# Altium schematic symbol library HW.SchLib: 328 symbols (part 1 of 10)
Pins are listed as number, name and electrical type; pins without a type are passive.

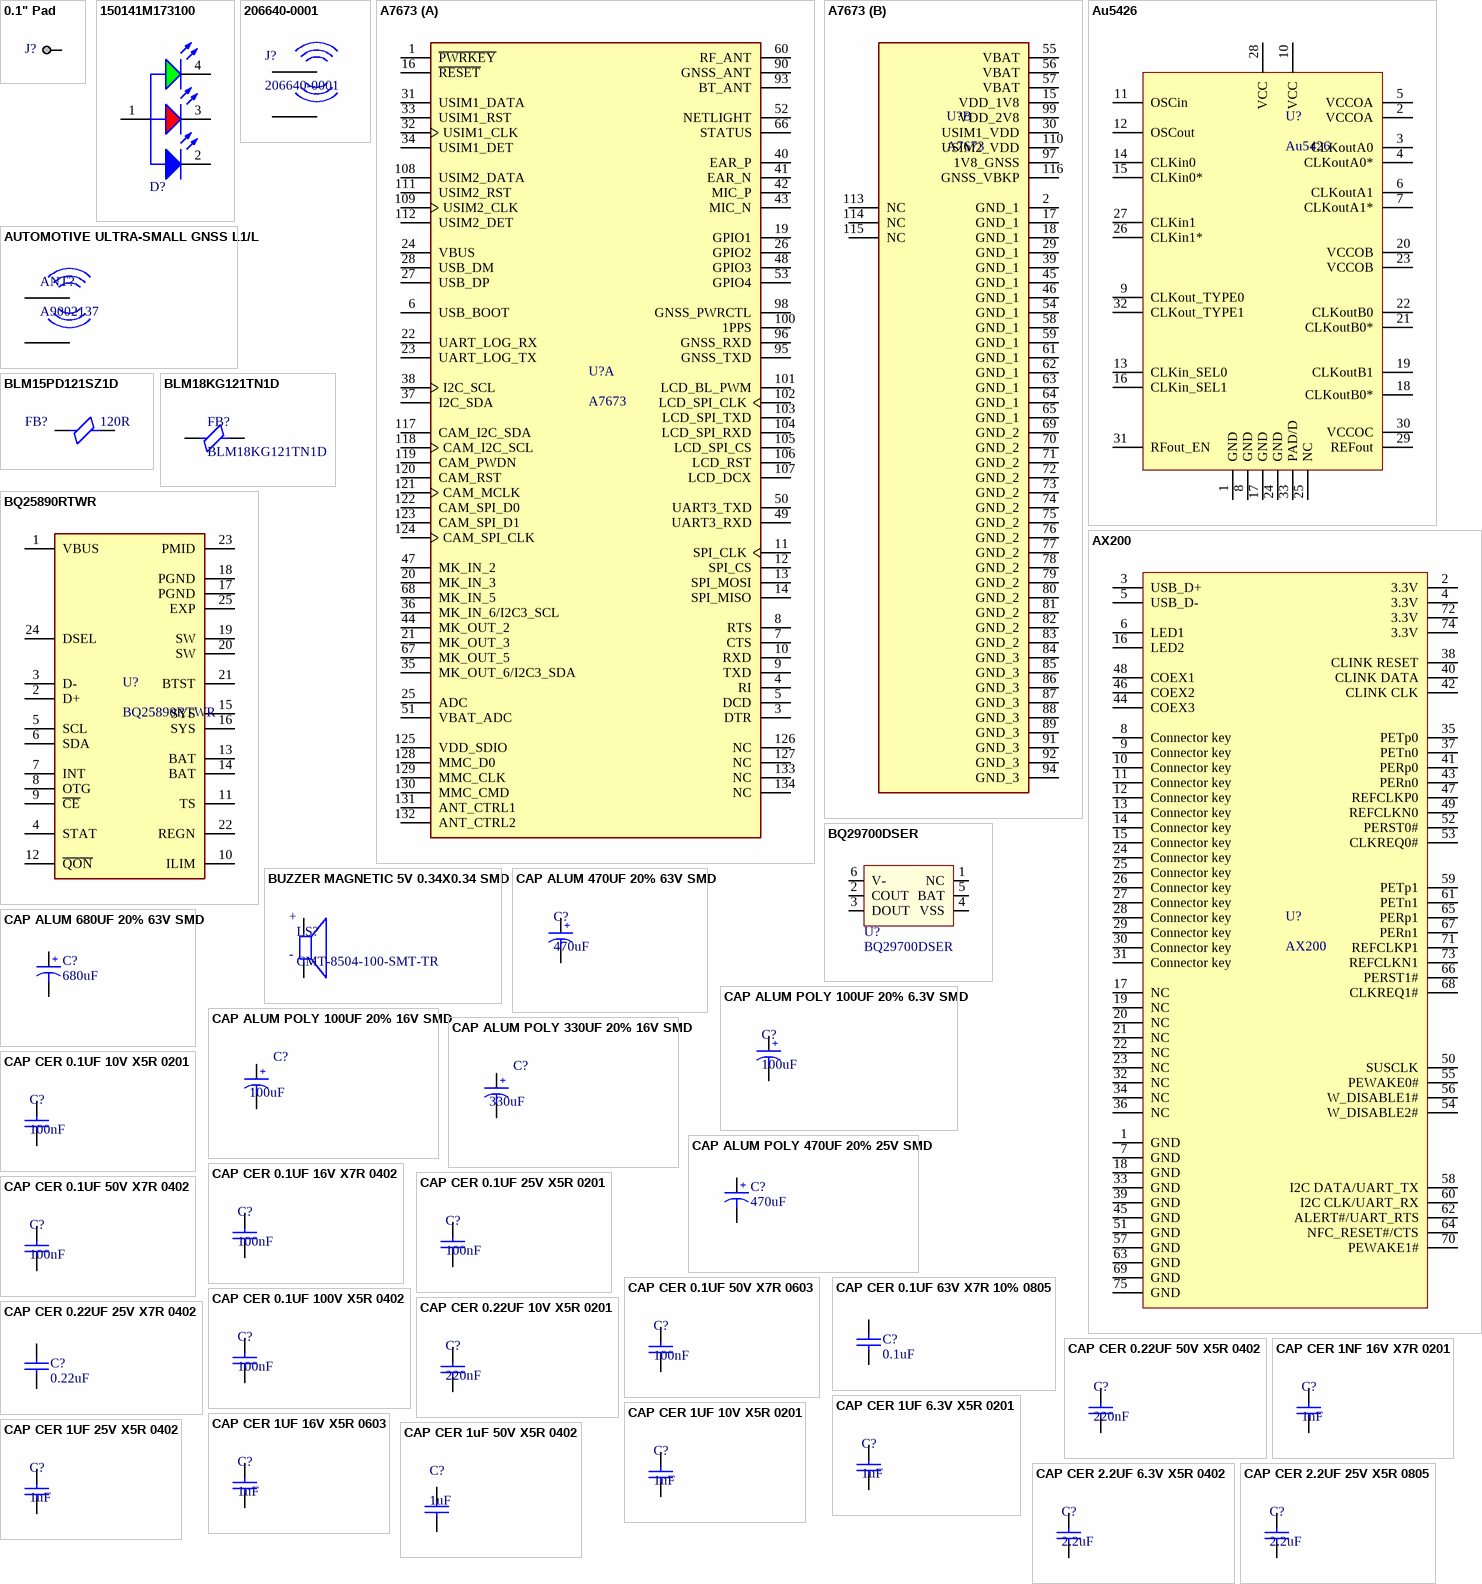
[diagram p0: symbols 0.1" Pad to CAP CER 2.2UF 25V X5R 0805]

## 0.1" Pad
designator J?  (value not drawn)  (no BOM)
footprint 0.1" Pad
pins: 1

## 150141M173100
designator D?, comment Red & Green & Blue, 120°  (value not drawn)
WL-SFTW Full-color TOP LED Waterclear, size 3528, Red & Green & Blue, 120°; Manufacturer Part Number: 150141M173100; Manufacturer: Wurth Elektronik; Case/Size Code: 3528; Chip Technology: AlInGaP + InGaN; Dominant Wavelength (Blue): 470nm; Dominant Wavelength (Green): 520nm; Dominant Wavelength (Red): 625nm; Forward Voltage (Blue): 3.2V; Forward Voltage (Red): 2V; Luminous Intensity (Blue): 230mcd; Luminous Intensity (Green): 950mcd; Luminous Intensity (Red): 270mcd; Peak Wavelength (Blue): 465nm; Peak Wavelength (Green): 515nm; Peak Wavelength (Red): 635nm; Category: Signal LEDs; Match Code: WL-SFTW; ComponentLink1Description: Website Link; ComponentLink1URL: https://www.we-online.com/redexpert/article/150141M173100?ad; ComponentLink2Description: Datasheet Link; ComponentLink2URL: https://www.we-online.com/redexpert/spec/150141M173100?ad; Mount: Surface Mount; Operating Temperature Max: 85°C; Operating Temperature Min: -40°C; Packaging: Tape and Reel; Length: 3.5mm; Width: 2.8mm; Height: 1.9mm; Emitting Color: Red & Green & Blue; Forward Voltage (Green): 3.2V; Viewing Angle: 120°
footprint WL-SFTW_3528_150141M173100 (SMT Full-color TOP LED Waterclear, body 3.5x2.8mm)
pins: 1 A, 2 K, 3 K, 4 K

## 206640-0001
designator J?
Patch Antenna Right Hand Circular 1564MHz/1578MHz/1607MHz 4.5dBi 50Ohm Adhesive Box; Manufacturer: Molex; Supplier 1: Avnet; Manufacturer Part Number: 206640-0001; RoHS: No; Category: RF Antennas; Stock 1: 2803; Pricing 1: 1=11.06, 5=10.23, 10=9.4, 25=9.24, 50=9 (USD); ComponentLink1URL: http://datasheet.octopart.com/2066400001-Molex-datasheet-147956594.pdf?src-supplier=Arrow+Electronics; ComponentLink1Description: http://datasheet.octopart.com/2066400001-Molex-datasheet-147956594.pdf?src-supplier=Arrow+Electronics; ComponentLink2URL: http://datasheet.octopart.com/2066400001-Molex-datasheet-147956594.pdf?src-supplier=Newark; ComponentLink2Description: http://datasheet.octopart.com/2066400001-Molex-datasheet-147956594.pdf?src-supplier=Newark; ComponentLink3URL: http://datasheet.octopart.com/2066400001-Molex-datasheet-147956594.pdf?src-supplier=Distrelec; ComponentLink3Description: http://datasheet.octopart.com/2066400001-Molex-datasheet-147956594.pdf?src-supplier=Distrelec; ComponentLink4URL: http://datasheet.octopart.com/2066400001-Molex-datasheet-147956594.pdf?src-supplier=Rs; ComponentLink4Description: http://datasheet.octopart.com/2066400001-Molex-datasheet-147956594.pdf?src-supplier=Rs; ComponentLink5URL: http://datasheet.octopart.com/2066400001-Molex-datasheet-147956594.pdf?src-supplier=Onlinecomponents.com; ComponentLink5Description: http://datasheet.octopart.com/2066400001-Molex-datasheet-147956594.pdf?src-supplier=Onlinecomponents.com; ComponentLink6URL: https://datasheet.octopart.com/206640-0001-Molex-datasheet-151511605.pdf?src-supplier=TME; ComponentLink6Description: https://datasheet.octopart.com/206640-0001-Molex-datasheet-151511605.pdf?src-supplier=TME; ComponentLink7URL: http://datasheet.octopart.com/2066400001-Molex-datasheet-147956594.pdf?src-supplier=TME; ComponentLink7Description: http://datasheet.octopart.com/2066400001-Molex-datasheet-147956594.pdf?src-supplier=TME; ComponentLink8URL: http://datasheet.octopart.com/2066400001-Molex-datasheet-147956594.pdf?src-supplier=TTI; ComponentLink8Description: http://datasheet.octopart.com/2066400001-Molex-datasheet-147956594.pdf?src-supplier=TTI; Supplier Part Number 1: 62AC0252
footprint IPEX
pins: 1 AT, 2 0

## A7673
designator U?
Cellular EDGE, GPRS, GSM, LTE Transceiver Module 900MHz, 1.8GHz Antenna Not Included Surface Mount; MF: SIMCom Wireless Solutions Limited; MP: A7672SA (LASE); SnapEDA_Link: https://www.snapeda.com/parts/A7672SA%20(LASE)/SIMCom/view-part/?ref=snap; Package: SMD-80 SIMCom; Value: *; Check_prices: https://www.snapeda.com/parts/A7672SA%20(LASE)/SIMCom/view-part/?ref=eda
footprint A7673
part A pins: 1 ~{PWRKEY}, 3 DTR, 4 RI, 5 DCD, 6 USB_BOOT, 7 CTS, 8 RTS, 9 TXD, 10 RXD, 11 SPI_CLK, 12 SPI_CS, 13 SPI_MOSI, 14 SPI_MISO, 16 ~{RESET}, 19 GPIO1, 20 MK_IN_3, 21 MK_OUT_3, 22 UART_LOG_RX, 23 UART_LOG_TX, 24 VBUS, 25 ADC, 26 GPIO2, 27 USB_DP, 28 USB_DM, 31 USIM1_DATA, 32 USIM1_CLK, 33 USIM1_RST, 34 USIM1_DET, 35 MK_OUT_6/I2C3_SDA, 36 MK_IN_6/I2C3_SCL, 37 I2C_SDA, 38 I2C_SCL, 40 EAR_P, 41 EAR_N, 42 MIC_P, 43 MIC_N, 44 MK_OUT_2, 47 MK_IN_2, 48 GPIO3, 49 UART3_RXD, 50 UART3_TXD, 51 VBAT_ADC, 52 NETLIGHT, 53 GPIO4, 60 RF_ANT, 66 STATUS, 67 MK_OUT_5, 68 MK_IN_5, 90 GNSS_ANT, 93 BT_ANT, 95 GNSS_TXD, 96 GNSS_RXD, 98 GNSS_PWRCTL, 100 1PPS, 101 LCD_BL_PWM, 102 LCD_SPI_CLK, 103 LCD_SPI_TXD, 104 LCD_SPI_RXD, 105 LCD_SPI_CS, 106 LCD_RST, 107 LCD_DCX, 108 USIM2_DATA, 109 USIM2_CLK, 111 USIM2_RST, 112 USIM2_DET, 117 CAM_I2C_SDA, 118 CAM_I2C_SCL, 119 CAM_PWDN, 120 CAM_RST, 121 CAM_MCLK, 122 CAM_SPI_D0, 123 CAM_SPI_D1, 124 CAM_SPI_CLK, 125 VDD_SDIO, 126 NC, 127 NC, 128 MMC_D0, 129 MMC_CLK, 130 MMC_CMD, 131 ANT_CTRL1, 132 ANT_CTRL2, 133 NC, 134 NC
part B pins: 2 GND_1 (power), 15 VDD_1V8 (power), 17 GND_1 (power), 18 GND_1 (power), 29 GND_1 (power), 30 USIM1_VDD (power), 39 GND_1 (power), 45 GND_1 (power), 46 GND_1 (power), 54 GND_1 (power), 55 VBAT (power), 56 VBAT (power), 57 VBAT (power), 58 GND_1 (power), 59 GND_1 (power), 61 GND_1 (power), 62 GND_1 (power), 63 GND_1 (power), 64 GND_1 (power), 65 GND_1 (power), 69 GND_2 (power), 70 GND_2 (power), 71 GND_2 (power), 72 GND_2 (power), 73 GND_2 (power), 74 GND_2 (power), 75 GND_2 (power), 76 GND_2 (power), 77 GND_2 (power), 78 GND_2 (power), 79 GND_2 (power), 80 GND_2 (power), 81 GND_2 (power), 82 GND_2 (power), 83 GND_2 (power), 84 GND_3 (power), 85 GND_3 (power), 86 GND_3 (power), 87 GND_3 (power), 88 GND_3 (power), 89 GND_3 (power), 91 GND_3 (power), 92 GND_3 (power), 94 GND_3 (power), 97 1V8_GNSS (power), 99 VDD_2V8 (power), 110 USIM2_VDD (power), 113 NC, 114 NC, 115 NC, 116 GNSS_VBKP (power)

## Au5426
designator U?
footprint QFN50P500X500X80-33N
pins: 1 GND, 2 VCCOA, 3 CLKoutA0, 4 CLKoutA0*, 5 VCCOA, 6 CLKoutA1, 7 CLKoutA1*, 8 GND, 9 CLKout_TYPE0, 10 VCC, 11 OSCin, 12 OSCout, 13 CLKin_SEL0, 14 CLKin0, 15 CLKin0*, 16 CLKin_SEL1, 17 GND, 18 CLKoutB0*, 19 CLKoutB1, 20 VCCOB, 21 CLKoutB0*, 22 CLKoutB0, 23 VCCOB, 24 GND, 25 NC, 26 CLKin1*, 27 CLKin1, 28 VCC, 29 REFout, 30 VCCOC, 31 RFout_EN, 32 CLKout_TYPE1, 33 PAD/D

## AUTOMOTIVE ULTRA-SMALL GNSS L1/L
designator ANT?, comment A9002137
Automotive Ultra-small Gnss L1/L; Manufacturer: KYOCERA AVX; Supplier 1: Digikey; Manufacturer Part Number: A9002137; Stock 1: 4993; Pricing 1: 1=1.53, 10=1.367, 25=1.2976, 100=1.066, 250=0.99652, 500=0.88064, 1000=0.69525, 2500=0.6489 (USD); Supplier Part Number 1: 478-A9002137CT-ND
footprint A9002137
pins: 1 AT, 2 0

## AX200
designator U?
Intel® Wi-Fi 6 AX200  (Cyclone Peak 2) /
footprint AMPHENOL_MDT420E03001
pins: 1 GND, 2 3.3V, 3 USB_D+, 4 3.3V, 5 USB_D-, 6 LED1, 7 GND, 8 Connector key, 9 Connector key, 10 Connector key, 11 Connector key, 12 Connector key, 13 Connector key, 14 Connector key, 15 Connector key, 16 LED2, 17 NC, 18 GND, 19 NC, 20 NC, 21 NC, 22 NC, 23 NC, 24 Connector key, 25 Connector key, 26 Connector key, 27 Connector key, 28 Connector key, 29 Connector key, 30 Connector key, 31 Connector key, 32 NC, 33 GND, 34 NC, 35 PETp0, 36 NC, 37 PETn0, 38 CLINK RESET, 39 GND, 40 CLINK DATA, 41 PERp0, 42 CLINK CLK, 43 PERn0, 44 COEX3, 45 GND, 46 COEX2, 47 REFCLKP0, 48 COEX1, 49 REFCLKN0, 50 SUSCLK, 51 GND, 52 PERST0#, 53 CLKREQ0#, 54 W_DISABLE2#, 55 PEWAKE0#, 56 W_DISABLE1#, 57 GND, 58 I2C DATA/UART_TX, 59 PETp1, 60 I2C CLK/UART_RX, 61 PETn1, 62 ALERT#/UART_RTS, 63 GND, 64 NFC_RESET#/CTS, 65 PERp1, 66 PERST1#, 67 PERn1, 68 CLKREQ1#, 69 GND, 70 PEWAKE1#, 71 REFCLKP1, 72 3.3V, 73 REFCLKN1, 74 3.3V, 75 GND

## BLM15PD121SZ1D
designator FB?, comment 120R
Ferrite Beads Multi-Layer 120Ohm 25% 100MHz 1.3A 0.09Ohm DCR 0402 Automotive T/R; Manufacturer: Murata; Manufacturer Part Number: BLM15PD121SZ1D; Core Material: 228ConductorMaterial; Number of Lines: 1; Resistance: 90mR; Supplier 1: Arrow Electronics; RoHS: Yes; Category: Ferrite Beads and Chips; Stock 1: 10000; Pricing 1: 10000=0.0178, 20000=0.0168, 30000=0.016, 50000=0.0158 (USD); Mount: Surface Mount; Case/Package: 0402; Case Code (Imperial): 0402; Case Code (Metric): 1005; Min Operating Temperature: -55°C; Max Operating Temperature: 125°C; Packaging: Cut Tape; Max Current Rating: 1.3A; Series: EMIFIL®, BLM15; RMS Current (Irms): 1.3A; Series Resistance: 90mR; Test Frequency: 100MHz; Tolerance: 25%; Height: 550um; Ratings: AEC-Q200; RoHS Compliant: Yes; ComponentLink1URL: https://www.murata.com/en-us/products/productdata/8796748677150/QNFA9118.pdf?src-supplier=Digi-Key; ComponentLink1Description: https://www.murata.com/en-us/products/productdata/8796748677150/QNFA9118.pdf?src-supplier=Digi-Key; Supplier Part Number 1: BLM15PD121SZ1D
footprint FB0402
pins: 1, 2

## BLM18KG121TN1D
designator FB?
Ferrite Beads Multi-Layer 120Ohm 25% 100MHz 3A 30mOhm DCR 0603 Paper T/R; Manufacturer: Murata; Material: Steel,Ferrite; Impedance: 120R; Number of Lines: 1; DC Resistance (DCR): 30mR; Supplier 1: Future Electronics; Manufacturer Part Number: BLM18KG121TN1D; RoHS: Yes; Category: Ferrite Beads and Chips; Stock 1: 368000; Pricing 1: 4000=0.0182, 16000=0.0174, 40000=0.0169, 100000=0.0164, 160000=0.0157 (USD); Case/Package: 0603; Number of Pins: 2; Core Material: Ferrite; Case Code (Metric): 1608; Case Code (Imperial): 0603; Min Operating Temperature: -55°C; Max Operating Temperature: 125°C; Package Quantity: 1; Tolerance: 25%; Packaging: Tape and Reel; Current Rating: 3A; Max Current Rating: 3A; Max DC Current: 3A; Termination: SMD/SMT; Test Frequency: 100MHz; Number of Circuits: 1; Series: BLM18K; Inductor Type: FERRITE BEAD; RMS Current (Irms): 3A; Series Resistance: 30mR; Length: 1.6mm; Width: 0.8mm; Height: 0.8mm; Depth: 0.95mm; Reach SVHC Compliant: No; Lead Free: Lead Free; RoHS Compliant: Yes; ComponentLink1URL: https://datasheet.ciiva.com/11795/0900766b81076276-11795748.pdf?src-supplier=Rs; ComponentLink1Description: https://datasheet.ciiva.com/11795/0900766b81076276-11795748.pdf?src-supplier=Rs; ComponentLink2URL: https://datasheet.ciiva.com/22715/486545-22715701.pdf?src-supplier=Element14; ComponentLink2Description: https://datasheet.ciiva.com/22715/486545-22715701.pdf?src-supplier=Element14; ComponentLink3URL: https://datasheet.ciiva.com/1012/l0110e-1012354.pdf?src-supplier=Digikey; ComponentLink3Description: https://datasheet.ciiva.com/1012/l0110e-1012354.pdf?src-supplier=Digikey; ComponentLink4URL: https://datasheet.ciiva.com/1012/l0110e-1012353.pdf?src-supplier=Digikey; ComponentLink4Description: https://datasheet.ciiva.com/1012/l0110e-1012353.pdf?src-supplier=Digikey; ComponentLink5URL: https://datasheet.ciiva.com/1012/l0110e-1012355.pdf?src-supplier=Digikey; ComponentLink5Description: https://datasheet.ciiva.com/1012/l0110e-1012355.pdf?src-supplier=Digikey; ComponentLink6URL: https://datasheet.ciiva.com/41449/001172289-da-01-en-drossel-0603-120r-1-6x0-8mm-4000st-41449628.pdf?src-supplier=Conrad; ComponentLink6Description: https://datasheet.ciiva.com/41449/001172289-da-01-en-drossel-0603-120r-1-6x0-8mm-4000st-41449628.pdf?src-supplier=Conrad; Supplier Part Number 1: 3001764
footprint R0603B/1608MM (Chip Resistor, 2-Leads, Body 1.6x0.8mm, IPC High Density)
footprint Model Name (Footprint not found)
pins: 1, 2

## BQ25890RTWR
designator U?
1-cell, 5-A, battery charger Maxcharge tech for high input voltageand adjustable boost with D+/D- 24-WQFN -40 to 85; MF: Texas Instruments; Availability: In Stock; Check_prices: https://www.snapeda.com/parts/BQ25890RTWR/Texas%20Instruments/view-part/1235425/?ref=eda; SnapEDA_Link: https://www.snapeda.com/parts/BQ25890RTWR/Texas%20Instruments/view-part/1235425/?ref=snap; Purchase-URL: https://pricing.snapeda.com/search/part/BQ25890RTWR/?ref=eda; Package: WQFN-24 Texas Instruments; MP: BQ25890RTWR; Value: *; Price: None
footprint QFN50P400X400X80-25N
pins: 1 VBUS, 2 D+, 3 D-, 4 STAT, 5 SCL, 6 SDA, 7 INT, 8 OTG, 9 ~{CE}, 10 ILIM, 11 TS, 12 ~{QON}, 13 BAT, 14 BAT, 15 SYS, 16 SYS, 17 PGND, 18 PGND, 19 SW, 20 SW, 21 BTST, 22 REGN, 23 PMID, 24 DSEL, 25 EXP

## BQ29700DSER
designator U?
Li-Ion/Li Polymer Advanced Single-Cell Battery Protector IC Family 6-WSON -40 to 85; Manufacturer: Texas Instruments; Supplier 1: Mouser; Manufacturer Part Number: BQ29700DSER; RoHS: Yes; Category: Battery Management; Stock 1: 3876; Pricing 1: 1=0.42, 10=0.348, 50=0.348, 100=0.264, 1000=0.198, 10000=0.195 (USD); Length: 1.5mm; Width: 1.5mm; Height: 800um; Thickness: 750um; ComponentLink1URL: http://www.ti.com/lit/ds/symlink/bq2971.pdf?src-supplier=Digikey; ComponentLink1Description: http://www.ti.com/lit/ds/symlink/bq2971.pdf?src-supplier=Digikey; ComponentLink2URL: http://www.ti.com/lit/gpn/bq2970?src-supplier=Mouser; ComponentLink2Description: http://www.ti.com/lit/gpn/bq2970?src-supplier=Mouser; ComponentLink3URL: http://www.ti.com/general/docs/lit/getliterature.tsp?genericPartNumber=BQ2970&&fileType=pdf&src-supplier=Avnet; ComponentLink3Description: http://www.ti.com/general/docs/lit/getliterature.tsp?genericPartNumber=BQ2970&&fileType=pdf&src-supplier=Avnet; Supplier Part Number 1: 595-BQ29700DSER
footprint BQ29700DSER (Battery Battery Protection IC Lithium-Ion/Polymer 6-WSON (1.5x1.5))
pins: 1 NC, 2 COUT, 3 DOUT, 4 VSS, 5 BAT, 6 V-

## BUZZER MAGNETIC 5V 0.34X0.34 SMD
designator LS?, comment CMT-8504-100-SMT-TR
8.5 mm, 5 Vo-p, 100 dB, Surface Mount (SMT), Magnetic Audio Transducer Buzzer; MF: CUI Devices; Package: CUI Devices; Purchase-URL: https://pricing.snapeda.com/search/part/CMT-8504-100-SMT-TR/?ref=eda; MP: CMT-8504-100-SMT-TR; Price: None; Availability: In Stock; Check_prices: https://www.snapeda.com/parts/CMT-8504-100-SMT-TR/CUI+Devices/view-part/?ref=eda; Value: *; SnapEDA_Link: https://www.snapeda.com/parts/CMT-8504-100-SMT-TR/CUI+Devices/view-part/?ref=snap; CUI_purchase_URL: https://www.cuidevices.com/product/audio/buzzers/audio-transducers/cmt-8504-100-smt-tr?utm_source=snapeda.com&utm_medium=referral&utm_campaign=snapedaBOM
footprint XDCR_CMT-8504-100-SMT-TR
pins: N, P
text: +; -

## CAP ALUM 470UF 20% 63V SMD
designator C?, comment 470uF
Aluminum Electrolytic Capacitor, 470 uF, 63 V, ± 20%, 2000 hours @ 125°C, Radial Can - SMD; Manufacturer: Panasonic; Manufacturer Part Number: EEE-TK1J471AM; ESR (Equivalent Series Resistance): 180mR; Ripple Current: 500mA; Voltage Rating: 63V; Leakage Current: 296.1uA; Dissipation Factor: 0.12%; Lead Diameter: 1.2mm; Supplier 1: Digikey; RoHS: Yes; Category: Aluminum Electrolytic Capacitors; Stock 1: 560; Pricing 1: 1=2.7, 10=2.071, 50=1.9024 (USD); Mount: Surface Mount,PCB; Case/Package: Radial; Number of Pins: 16; Min Operating Temperature: -40°C; Max Operating Temperature: 125°C; Capacitance: 470uF; Packaging: Tape and Reel; Tolerance: 20%; Package Quantity: 1; Ripple Current (AC): 500mA; Voltage Rating (DC): 63V; Termination: SMD/SMT; Life (Hours): 2000Hour; Voltage: 63V; Series: TK; Construction: Cylindrical; Diameter: 16mm; Length: 16.5mm; Width: 17mm; Height: 16.5mm; Lead Pitch: 6.7mm; Height - Seated (Max): 0.65inch; Radiation Hardening: No; Reach SVHC Compliant: No; Lead Free: Lead Free; RoHS Compliant: Yes; ComponentLink1URL: https://datasheet.ciiva.com/11777/0900766b8102e63d-11777126.pdf?src-supplier=Rs; ComponentLink1Description: https://datasheet.ciiva.com/11777/0900766b8102e63d-11777126.pdf?src-supplier=Rs; ComponentLink2URL: https://datasheet.ciiva.com/24031/aba0000ce121-470559-24031198.pdf?src-supplier=Mouser; ComponentLink2Description: https://datasheet.ciiva.com/24031/aba0000ce121-470559-24031198.pdf?src-supplier=Mouser; ComponentLink3URL: https://datasheet.ciiva.com/46438/1843634-46438029.pdf?src-supplier=Element14; ComponentLink3Description: https://datasheet.ciiva.com/46438/1843634-46438029.pdf?src-supplier=Element14; ComponentLink4URL: https://datasheet.ciiva.com/2986/aba0000ce121-2986036.pdf?src-supplier=Avnet; ComponentLink4Description: https://datasheet.ciiva.com/2986/aba0000ce121-2986036.pdf?src-supplier=Avnet; ComponentLink5URL: https://datasheet.ciiva.com/2986/aba0000ce121-2986037.pdf?src-supplier=Avnet; ComponentLink5Description: https://datasheet.ciiva.com/2986/aba0000ce121-2986037.pdf?src-supplier=Avnet; ComponentLink6URL: https://datasheet.ciiva.com/14591/70256966-14591918.pdf?src-supplier=Allied+Electronics; ComponentLink6Description: https://datasheet.ciiva.com/14591/70256966-14591918.pdf?src-supplier=Allied+Electronics; ComponentLink7URL: https://datasheet.ciiva.com/14596/70256966-14596895.pdf?src-supplier=Allied+Electronics; ComponentLink7Description: https://datasheet.ciiva.com/14596/70256966-14596895.pdf?src-supplier=Allied+Electronics; Supplier Part Number 1: PCE4907CT-ND
footprint CAP-SMD_BD16.0-L17.0-W17.0-FD
pins: 1, 2
text: +

## CAP ALUM 680UF 20% 63V SMD
designator C?, comment 680uF
CAP ALUM 680UF 20% 63V SMD; Manufacturer PN: EEV-FK1J681M; Manufacturer: Panasonic Electronic Components; JLCPCB PN: C249956
footprint CAP_ALUM_EEV-FK1J681M
pins: 1, 2
text: +

## CAP ALUM POLY 100UF 20% 6.3V SMD
designator C?, comment 100uF
Cap Aluminum 100uF 6.3V 20% (7.3 X 4.3 X 1.9mm) SMD 0.015 Ohm 2700mA 1000h 105C Embossed T/R; Manufacturer: Panasonic; Manufacturer Part Number: EEF-CX0J101R; Material: 4242ConductorMaterial; Ripple Current: 2.7A; ESR (Equivalent Series Resistance): 15mR; Leakage Current: 63uA; Dissipation Factor: 0.06%; Life (Hours): 1000Hour; Lead Diameter: 2.4mm; Supplier 1: Mouser; RoHS: Yes; Category: Polymer Capacitors; Stock 1: 19204; Pricing 1: 1=1.2, 10=0.852, 50=0.852, 100=0.698, 500=0.557, 1000=0.492, 3500=0.459, 7000=0.442, 10000=0.442, 10500=0.418, 24500=0.417 (USD); Mount: Surface Mount,PCB; Case/Package: 2917; Number of Pins: 2; Case Code (Metric): 7343; Case Code (Imperial): 2917; Weight: 0.004586oz; Min Operating Temperature: -40°C; Max Operating Temperature: 105°C; Capacitance: 100uF; Tolerance: 20%; Voltage Rating: 6.3V; Packaging: Tape and Reel; Package Quantity: 3500; Voltage Rating (DC): 6.3V; Termination: SMD/SMT; Series: SP-Cap CX; Ripple Current (AC): 2.7A; Voltage: 6.3V; Construction: Flat; Length: 7.3mm; Width: 4.3mm; Height: 1.9mm; Lead Pitch: 1.3mm; Depth: 4.3mm; Radiation Hardening: No; Reach SVHC Compliant: No; RoHS Compliant: Yes; Lead Free: Lead Free; ComponentLink1URL: https://datasheet.ciiva.com/25613/0900766b80f32dcc-25613459.pdf?src-supplier=Rs; ComponentLink1Description: https://datasheet.ciiva.com/25613/0900766b80f32dcc-25613459.pdf?src-supplier=Rs; ComponentLink2URL: https://datasheet.ciiva.com/43456/1661757-43456735.pdf?src-supplier=Farnell; ComponentLink2Description: https://datasheet.ciiva.com/43456/1661757-43456735.pdf?src-supplier=Farnell; ComponentLink3URL: https://datasheet.ciiva.com/6134/1661757-6134303.pdf?src-supplier=Farnell; ComponentLink3Description: https://datasheet.ciiva.com/6134/1661757-6134303.pdf?src-supplier=Farnell; ComponentLink4URL: https://datasheet.ciiva.com/46376/1661757-46376860.pdf?src-supplier=Element14; ComponentLink4Description: https://datasheet.ciiva.com/46376/1661757-46376860.pdf?src-supplier=Element14; ComponentLink5URL: https://datasheet.ciiva.com/14605/70068309-14605688.pdf?src-supplier=Allied+Electronics; ComponentLink5Description: https://datasheet.ciiva.com/14605/70068309-14605688.pdf?src-supplier=Allied+Electronics; ComponentLink6URL: https://datasheet.ciiva.com/14603/70068309-14603080.pdf?src-supplier=Allied+Electronics; ComponentLink6Description: https://datasheet.ciiva.com/14603/70068309-14603080.pdf?src-supplier=Allied+Electronics; ComponentLink7URL: https://datasheet.ciiva.com/11677/abe0000ce3-11677271.pdf?src-supplier=Avnet; ComponentLink7Description: https://datasheet.ciiva.com/11677/abe0000ce3-11677271.pdf?src-supplier=Avnet; ComponentLink8URL: https://datasheet.ciiva.com/2986/abe0000ce3-2986072.pdf?src-supplier=Avnet; ComponentLink8Description: https://datasheet.ciiva.com/2986/abe0000ce3-2986072.pdf?src-supplier=Avnet; ComponentLink9URL: https://datasheet.ciiva.com/30209/3abe0000ce3-30209823.pdf?src-supplier=Onlinecomponents.com; ComponentLink9Description: https://datasheet.ciiva.com/30209/3abe0000ce3-30209823.pdf?src-supplier=Onlinecomponents.com; Supplier Part Number 1: 667-EEF-CX0J101R
footprint CAP_TANTAL_2917(7343-31) (Chip capacitor, Body 6.0x3.2mm, IPC High Density)
pins: 1, 2
text: +

## CAP ALUM POLY 100UF 20% 16V SMD
designator C?, comment 100uF
100µF 16V 20% 15mΩ 4000mA; Part Number: CA0011; ManfactPart: 16SVPG100M; ID: 11; RefVal: 100µF
footprint EC_B6
pins: 1, 2
text: +

## CAP ALUM POLY 330UF 20% 16V SMD
designator C?, comment 330uF
330µF 16V 20% 16mΩ 4100mA; Part Number: CA0012; ManfactPart: 16SVPG330MX; ID: 12; RefVal: 330µF
footprint EC_E7
pins: 1, 2
text: +

## CAP ALUM POLY 470UF 20% 25V SMD
designator C?, comment 470uF
CAP ALUM POLY 470UF 20% 25V SMD; Manufacturer PN: 25SVPK470M; Manufacturer: Panasonic Electronic Components; JLCPCB PN: C59923
footprint CAP_ALUM_25SVPK470M
pins: 1, 2
text: +

## CAP CER 0.1UF 10V X5R 0201
designator C?, comment 100nF
Multilayer Ceramic Capacitor, 0.1 uF, 10 V, ± 10%, X5R, 0201 [0603 Metric]; Manufacturer: Murata; Manufacturer Part Number: GRM033R61A104KE15D; Material: 4241ConductorMaterial; Voltage Rating: 10V; Supplier 1: Future Electronics; RoHS: Yes; Category: Ceramic Capacitors; Stock 1: 600000; Pricing 1: 15000=0.002, 75000=0.0019, 300000=0.0018, 750000=0.0017, 1875000=0.0016 (USD); Mount: Surface Mount; Case/Package: 0201; Case Code (Metric): 0603; Case Code (Imperial): 0201; Weight: 6E-06oz; Min Operating Temperature: -55°C; Max Operating Temperature: 85°C; Capacitance: 100nF; Tolerance: 10%; Dielectric: X5R; Packaging: Tape and Reel; Package Quantity: 1; Voltage Rating (DC): 10V; Termination: SMD/SMT; Voltage: 10V; Series: GRM; Construction: Flat; Length: 0.6mm; Width: 0.012inch; Height: 0.3mm; Thickness: 0.013inch; Depth: 0.3mm; Radiation Hardening: No; Reach SVHC Compliant: No; RoHS Compliant: Yes; Lead Free: 5697LeadFree; ComponentLink1URL: https://datasheet.ciiva.com/5413/product-5413117.pdf?src-supplier=Mouser; ComponentLink1Description: https://datasheet.ciiva.com/5413/product-5413117.pdf?src-supplier=Mouser; ComponentLink2URL: https://datasheet.ciiva.com/26843/getdatasheetpartid-308656-26843739.pdf?src-supplier=Verical; ComponentLink2Description: https://datasheet.ciiva.com/26843/getdatasheetpartid-308656-26843739.pdf?src-supplier=Verical; ComponentLink3URL: https://datasheet.ciiva.com/6256/partnumbering-e-01-6256407.pdf?src-supplier=Digikey; ComponentLink3Description: https://datasheet.ciiva.com/6256/partnumbering-e-01-6256407.pdf?src-supplier=Digikey; ComponentLink4URL: https://datasheet.ciiva.com/6256/partnumbering-e-01-6256406.pdf?src-supplier=Digikey; ComponentLink4Description: https://datasheet.ciiva.com/6256/partnumbering-e-01-6256406.pdf?src-supplier=Digikey; ComponentLink5URL: https://datasheet.ciiva.com/6256/partnumbering-e-01-6256408.pdf?src-supplier=Digikey; ComponentLink5Description: https://datasheet.ciiva.com/6256/partnumbering-e-01-6256408.pdf?src-supplier=Digikey; Supplier Part Number 1: 7051582
footprint C0201
pins: 1, 2

## CAP CER 0.1UF 16V X7R 0402
designator C?, comment 100nF
Multilayer Ceramic Capacitor, 0.1 uF, 16 V, ± 10%, X7R, 0402 [1005 Metric]; Manufacturer: Murata; Manufacturer Part Number: GRM155R71C104KA88J; Material: 4241ConductorMaterial; Voltage Rating: 16V; Supplier 1: Mouser; RoHS: Yes; Category: Ceramic Capacitors; Stock 1: 927828; Pricing 1: 1=0.1, 10=0.011, 50=0.011, 100=0.007, 1000=0.006, 2500=0.005, 10000=0.005, 50000=0.004 (USD); Mount: Surface Mount; Case/Package: 0402; Number of Pins: 2NUMBER; Case Code (Metric): 1005; Case Code (Imperial): 0402; Min Operating Temperature: -55°C; Max Operating Temperature: 125°C; Package Quantity: 1; Capacitance: 100nF; Tolerance: 10%; Packaging: Tape and Reel; Dielectric: X7R; Voltage Rating (DC): 16V; Termination: SMD/SMT; Voltage: 16V; Series: GRM; Construction: Flat; Length: 1mm; Width: 0.02inch; Height: 0.5mm; Thickness: 0.022inch; Depth: 0.5mm; Radiation Hardening: No; Reach SVHC Compliant: No; Lead Free: Lead Free; RoHS Compliant: Yes; ComponentLink1URL: https://datasheet.ciiva.com/6271/product-6271168.pdf?src-supplier=Digikey; ComponentLink1Description: https://datasheet.ciiva.com/6271/product-6271168.pdf?src-supplier=Digikey; ComponentLink2URL: https://datasheet.ciiva.com/6271/grm155r71c104ka88-01-6271231.pdf?src-supplier=Digikey; ComponentLink2Description: https://datasheet.ciiva.com/6271/grm155r71c104ka88-01-6271231.pdf?src-supplier=Digikey; Supplier Part Number 1: 81-GRM155R71C104KA8J
footprint C0402
pins: 1, 2

## CAP CER 0.1UF 25V X5R 0201
designator C?, comment 100nF
Multilayer Ceramic Capacitor, 0.1 uF, 25 V, ± 10%, X5R, 0201 [0603 Metric]; Manufacturer: Murata; Manufacturer Part Number: GRM033R61E104KE14J; Material: 4241ConductorMaterial; Supplier 1: Future Electronics; RoHS: Yes; Category: Ceramic Capacitors; Stock 1: 150000; Pricing 1: 50000=0.0044, 100000=0.0043, 200000=0.0041, 250000=0.0041, 750000=0.0039 (USD); ComponentLink1URL: http://www.mouser.com/ds/2/281/c02e-2905.pdf?src-supplier=Mouser; ComponentLink1Description: http://www.mouser.com/ds/2/281/c02e-2905.pdf?src-supplier=Mouser; ComponentLink2URL: https://datasheet.octopart.com/GRM033R61E104KE14J-Murata-datasheet-32479577.pdf?src-supplier=Future+Electronics; ComponentLink2Description: https://datasheet.octopart.com/GRM033R61E104KE14J-Murata-datasheet-32479577.pdf?src-supplier=Future+Electronics; ComponentLink3URL: http://search.murata.co.jp/Ceramy/image/img/A01X/G101/ENG/GRM033R61E104KE14-01.pdf?src-supplier=Digikey; ComponentLink3Description: http://search.murata.co.jp/Ceramy/image/img/A01X/G101/ENG/GRM033R61E104KE14-01.pdf?src-supplier=Digikey; ComponentLink4URL: https://search.murata.co.jp/Ceramy/image/img/A01X/G101/ENG/GRM033R61E104KE14-01.pdf?src-supplier=Digikey; ComponentLink4Description: https://search.murata.co.jp/Ceramy/image/img/A01X/G101/ENG/GRM033R61E104KE14-01.pdf?src-supplier=Digikey; ComponentLink5URL: https://datasheet.octopart.com/GRM033R61E104KE14J-Murata-datasheet-165579666.pdf?src-supplier=TME; ComponentLink5Description: https://datasheet.octopart.com/GRM033R61E104KE14J-Murata-datasheet-165579666.pdf?src-supplier=TME; Supplier Part Number 1: 3108837
footprint C0201
pins: 1, 2

## CAP CER 0.1UF 50V X7R 0402
designator C?, comment 100nF
Multilayer Ceramic Capacitor, 0.1 uF, 50 V, ± 10%, X7R, 0402 [1005 Metric]; Manufacturer: TDK; Manufacturer Part Number: CGA2B3X7R1H104K050BB; Material: 4241ConductorMaterial; Voltage Rating (DC): 50V; Supplier 1: Avnet; RoHS: Yes; Category: Ceramic Capacitors; Stock 1: 1600000; Pricing 1: 10000=0.01568 (USD); Mount: Surface Mount; Case/Package: 0402; Case Code (Metric): 1005; Case Code (Imperial): 0402; Weight: 2.3E-05oz; Min Operating Temperature: -55°C; Max Operating Temperature: 125°C; Capacitance: 100nF; Tolerance: 10%; Packaging: Tape and Reel; Dielectric: X7R; Voltage Rating: 50V; Package Quantity: 1; Termination: SMD/SMT; Voltage: 50V; Series: CGA; Construction: Flat; Length: 1mm; Width: 0.02inch; Height: 0.5mm; Depth: 0.5mm; Thickness: 0.022inch; Ratings: AEC-Q200; Lead Free: 5697LeadFree; Reach SVHC Compliant: No; RoHS Compliant: Yes; ComponentLink1URL: https://datasheet.ciiva.com/16498/mlccspec-automotive-general-midvoltage-en-16498528.pdf?src-supplier=Future+Electronics; ComponentLink1Description: https://datasheet.ciiva.com/16498/mlccspec-automotive-general-midvoltage-en-16498528.pdf?src-supplier=Future+Electronics; ComponentLink2URL: https://datasheet.ciiva.com/7975/1788388-7975306.pdf?src-supplier=Element14; ComponentLink2Description: https://datasheet.ciiva.com/7975/1788388-7975306.pdf?src-supplier=Element14; ComponentLink3URL: https://datasheet.ciiva.com/24216/cga2b3x7r1h104k050bb-266281-24216070.pdf?src-supplier=Mouser; ComponentLink3Description: https://datasheet.ciiva.com/24216/cga2b3x7r1h104k050bb-266281-24216070.pdf?src-supplier=Mouser; ComponentLink4URL: https://datasheet.ciiva.com/22703/1807242-22703013.pdf?src-supplier=Element14; ComponentLink4Description: https://datasheet.ciiva.com/22703/1807242-22703013.pdf?src-supplier=Element14; ComponentLink5URL: https://datasheet.ciiva.com/22725/1735392-22725627.pdf?src-supplier=Element14; ComponentLink5Description: https://datasheet.ciiva.com/22725/1735392-22725627.pdf?src-supplier=Element14; Supplier Part Number 1: CGA2B3X7R1H104K050BB
footprint C0402
pins: 1, 2

## CAP CER 0.1UF 50V X7R 0603
designator C?, comment 100nF
Multilayer Ceramic Capacitor, 0.1 uF, 50 V, ± 10%, X7R, 0603 [1608 Metric]; Manufacturer: TDK; Manufacturer Part Number: CGA3E2X7R1H104K080AA; Material: 4241ConductorMaterial; Voltage Rating (DC): 50V; Supplier 1: Avnet; RoHS: Yes; Category: Ceramic Capacitors; Stock 1: 12000; Pricing 1: 4000=0.01068, 8000=0.01044, 16000=0.0102, 24000=0.00996, 32000=0.00972 (USD); Mount: Surface Mount; Case/Package: 0603; Case Code (Imperial): 0603; Case Code (Metric): 1608; Weight: 7.1E-05oz; Min Operating Temperature: -55°C; Max Operating Temperature: 125°C; Capacitance: 100nF; Tolerance: 10%; Packaging: Tape and Reel; Dielectric: X7R; Package Quantity: 1; Voltage Rating: 50V; Termination: SMD/SMT; Voltage: 50V; Series: CGA; Length: 1.6mm; Width: 0.031inch; Height: 0.8mm; Depth: 0.8mm; Thickness: 0.035inch; Ratings: AEC-Q200; Radiation Hardening: No; RoHS Compliant: Yes; Lead Free: 5697LeadFree; Reach SVHC Compliant: No; ComponentLink1URL: https://datasheet.ciiva.com/24216/cga3e2x7r1h104k080aa-266291-24216208.pdf?src-supplier=Mouser; ComponentLink1Description: https://datasheet.ciiva.com/24216/cga3e2x7r1h104k080aa-266291-24216208.pdf?src-supplier=Mouser; ComponentLink2URL: https://datasheet.ciiva.com/15192/getdatasheetpartid-715867-15192412.pdf?src-supplier=Verical; ComponentLink2Description: https://datasheet.ciiva.com/15192/getdatasheetpartid-715867-15192412.pdf?src-supplier=Verical; ComponentLink3URL: https://datasheet.ciiva.com/22725/1735392-22725642.pdf?src-supplier=Element14; ComponentLink3Description: https://datasheet.ciiva.com/22725/1735392-22725642.pdf?src-supplier=Element14; ComponentLink4URL: https://datasheet.ciiva.com/46385/1735392-46385708.pdf?src-supplier=Element14; ComponentLink4Description: https://datasheet.ciiva.com/46385/1735392-46385708.pdf?src-supplier=Element14; ComponentLink5URL: https://datasheet.ciiva.com/23803/1936565-23803084.pdf?src-supplier=Newark; ComponentLink5Description: https://datasheet.ciiva.com/23803/1936565-23803084.pdf?src-supplier=Newark; ComponentLink6URL: https://datasheet.ciiva.com/16500/mlccspec-automotive-general-midvoltage-en-16500693.pdf?src-supplier=Future+Electronics; ComponentLink6Description: https://datasheet.ciiva.com/16500/mlccspec-automotive-general-midvoltage-en-16500693.pdf?src-supplier=Future+Electronics; Supplier Part Number 1: CGA3E2X7R1H104K080AA
footprint C0603C/1608MM (Chip Capacitor, 2-Leads, Body 1.6x0.8mm, IPC High Density)
pins: 1, 2

## CAP CER 0.1UF 63V X7R 10% 0805
designator C?, comment 0.1uF
CAP CER 0805 0.1UF 63V X7R 10%; Manufacturer PN: C0805C104KMREC7210; Manufacturer: KEMET; JLCPCB PN: C2220668
footprint C0805B/2012MM (Chip Capacitor, 2-Leads, Body 2.0x1.3mm, IPC Medium Density)
pins: 1, 2

## CAP CER 0.1UF 100V X5R 0402
designator C?, comment 100nF
Multilayer Ceramic Capacitor, 0.1 uF, 100 V, ± 10%, X5R, 0402 [1005 Metric]; Manufacturer: Murata; Manufacturer Part Number: GRM155R62A104KE14D; Material: 4241ConductorMaterial; Voltage Rating: 100V; Supplier 1: Mouser; RoHS: Yes; Category: Ceramic Capacitors; Stock 1: 531262; Pricing 1: 1=0.1, 10=0.023, 50=0.023, 100=0.013, 1000=0.009, 2500=0.007, 10000=0.005 (USD); Mount: Surface Mount; Case/Package: 0402; Case Code (Metric): 1005; Case Code (Imperial): 0402; Weight: 0.000212oz; Min Operating Temperature: -55°C; Max Operating Temperature: 85°C; Capacitance: 100nF; Packaging: Tape and Reel; Dielectric: X5R; Tolerance: 10%; Termination: SMD/SMT; Voltage Rating (DC): 100V; Package Quantity: 10000; Series: GRM; Length: 0.039inch; Width: 0.02inch; Height: 0.5mm; Thickness: 0.022inch; Reach SVHC Compliant: No; RoHS Compliant: Yes; Lead Free: 5697LeadFree; ComponentLink1URL: http://www.farnell.com/datasheets/2079151.pdf?src-supplier=Farnell; ComponentLink1Description: http://www.farnell.com/datasheets/2079151.pdf?src-supplier=Farnell; ComponentLink2URL: http://www.mouser.com/ds/2/281/c02e-2905.pdf?src-supplier=Mouser; ComponentLink2Description: http://www.mouser.com/ds/2/281/c02e-2905.pdf?src-supplier=Mouser; ComponentLink3URL: http://www.farnell.com/datasheets/2079151.pdf?src-supplier=Element14; ComponentLink3Description: http://www.farnell.com/datasheets/2079151.pdf?src-supplier=Element14; ComponentLink4URL: https://datasheet.octopart.com/GRM155R62A104KE14D-Murata-datasheet-66077071.pdf?src-supplier=Element14; ComponentLink4Description: https://datasheet.octopart.com/GRM155R62A104KE14D-Murata-datasheet-66077071.pdf?src-supplier=Element14; ComponentLink5URL: https://datasheet.octopart.com/GRM155R62A104KE14D-Murata-datasheet-22122223.pdf?src-supplier=Future+Electronics; ComponentLink5Description: https://datasheet.octopart.com/GRM155R62A104KE14D-Murata-datasheet-22122223.pdf?src-supplier=Future+Electronics; ComponentLink6URL: http://search.murata.co.jp/Ceramy/image/img/A01X/G101/ENG/GRM155R62A104KE14-01.pdf?src-supplier=Digikey; ComponentLink6Description: http://search.murata.co.jp/Ceramy/image/img/A01X/G101/ENG/GRM155R62A104KE14-01.pdf?src-supplier=Digikey; ComponentLink7URL: https://datasheet.octopart.com/GRM155R62A104KE14D-Murata-datasheet-149523038.pdf?src-supplier=Newark; ComponentLink7Description: https://datasheet.octopart.com/GRM155R62A104KE14D-Murata-datasheet-149523038.pdf?src-supplier=Newark; ComponentLink8URL: http://www.farnell.com/datasheets/2079151.pdf?src-supplier=Newark; ComponentLink8Description: http://www.farnell.com/datasheets/2079151.pdf?src-supplier=Newark; ComponentLink9URL: https://datasheet.octopart.com/GRM155R62A104KE14D-Murata-datasheet-165579666.pdf?src-supplier=TME; ComponentLink9Description: https://datasheet.octopart.com/GRM155R62A104KE14D-Murata-datasheet-165579666.pdf?src-supplier=TME; Supplier Part Number 1: 81-GRM155R62A104KE4D
footprint C0402
pins: 1, 2

## CAP CER 0.22UF 10V X5R 0201
designator C?, comment 220nF
Multilayer Ceramic Capacitor, 0.22 uF, 10 V, ± 10%, X5R, 0201 [0603 Metric]; Manufacturer: Murata; Manufacturer Part Number: GRM033R61A224KE90D; Material: 4241ConductorMaterial; Voltage Rating (DC): 10V; Dielectric: 1537DielectricType; Supplier 1: Future Electronics; RoHS: Yes; Category: Ceramic Capacitors; Stock 1: 285000; Pricing 1: 15000=0.0027, 60000=0.0026, 225000=0.0025, 375000=0.0024, 750000=0.0023 (USD); RoHS Compliant: 5897YesNo; ComponentLink1URL: http://www.mouser.com/ds/2/281/c02e-2905.pdf?src-supplier=Mouser; ComponentLink1Description: http://www.mouser.com/ds/2/281/c02e-2905.pdf?src-supplier=Mouser; ComponentLink2URL: http://www.farnell.com/datasheets/2867835.pdf?src-supplier=Farnell; ComponentLink2Description: http://www.farnell.com/datasheets/2867835.pdf?src-supplier=Farnell; ComponentLink3URL: https://datasheet.octopart.com/GRM033R61A224KE90D-Murata-datasheet-82944607.pdf?src-supplier=Future+Electronics; ComponentLink3Description: https://datasheet.octopart.com/GRM033R61A224KE90D-Murata-datasheet-82944607.pdf?src-supplier=Future+Electronics; ComponentLink4URL: http://search.murata.co.jp/Ceramy/image/img/A01X/G101/ENG/GRM033R61A224KE90-01.pdf?src-supplier=Digikey; ComponentLink4Description: http://search.murata.co.jp/Ceramy/image/img/A01X/G101/ENG/GRM033R61A224KE90-01.pdf?src-supplier=Digikey; ComponentLink5URL: http://www.farnell.com/datasheets/2867835.pdf?src-supplier=Newark; ComponentLink5Description: http://www.farnell.com/datasheets/2867835.pdf?src-supplier=Newark; ComponentLink6URL: https://datasheet.octopart.com/GRM033R61A224KE90D-Murata-datasheet-165579666.pdf?src-supplier=TME; ComponentLink6Description: https://datasheet.octopart.com/GRM033R61A224KE90D-Murata-datasheet-165579666.pdf?src-supplier=TME; ComponentLink7URL: https://datasheet.octopart.com/GRM033R61A224KE90D-Murata-datasheet-140568762.pdf?src-supplier=Arrow.cn; ComponentLink7Description: https://datasheet.octopart.com/GRM033R61A224KE90D-Murata-datasheet-140568762.pdf?src-supplier=Arrow.cn; Supplier Part Number 1: 4034521
footprint C0201
pins: 1, 2

## CAP CER 0.22UF 25V X7R 0402
designator C?, comment 0.22uF
CAP CER 0.22UF 25V X7R 0402; Manufacturer PN: CGA2B3X7R1E224K050BB; Manufacturer: TDK Corporation; JLCPCB PN: C2182126
footprint C0402 (Footprint not found)
pins: 1, 2

## CAP CER 0.22UF 50V X5R 0402
designator C?, comment 220nF
Multilayer Ceramic Capacitor, 0.22 uF, 50 VDC, ± 10%, X5R, 0402 [1005 Metric]; Manufacturer: Murata; Manufacturer Part Number: GRM155R61H224KE01J; Material: 4241ConductorMaterial; Dielectric: 1537DielectricType; Voltage Rating: 50V; Supplier 1: Mouser; RoHS: No; Category: Ceramic Capacitors; Stock 1: 48035; Pricing 1: 1=0.1, 10=0.052, 50=0.052, 100=0.027, 1000=0.017, 10000=0.014 (USD); Case/Package: 343Case; Min Operating Temperature: -55°C; Max Operating Temperature: 85°C; Capacitance: 220nF; Voltage Rating (DC): 50V; Length: 1mm; Width: 500um; Height: 550um; Thickness: 500um; Supplier Part Number 1: 81-GRM15R61H224KE01J
footprint C0402
pins: 1, 2

## CAP CER 1NF 16V X7R 0201
designator C?, comment 1nF
Cap Cer 1NF 16V X7R 0201; Manufacturer: Samsung; Manufacturer Part Number: CL03B102KOSVPNC; Supplier 1: Mouser; RoHS: No; Category: Ceramic Capacitors; Stock 1: 49800; Pricing 1: 1=0.1, 10=0.015, 50=0.015, 100=0.014, 1000=0.009, 10000=0.006 (USD); Supplier Part Number 1: 187-CL03B102KOSVPNC
footprint C0201
pins: 1, 2

## CAP CER 1UF 6.3V X5R 0201
designator C?, comment 1uF
Multilayer Ceramic Capacitor, 1 uF, 6.3 V, ± 20%, X5R, 0201 [0603 Metric]; Manufacturer: Murata; Manufacturer Part Number: GRM033R60J105MEA2D; Material: 4241ConductorMaterial; Voltage Rating: 6.3V; Supplier 1: Future Electronics; RoHS: Yes; Category: Ceramic Capacitors; Stock 1: 1035000; Pricing 1: 15000=0.0041, 45000=0.004, 75000=0.0039, 300000=0.0036, 450000=0.0035 (USD); Mount: Surface Mount; Case/Package: 0201; Case Code (Imperial): 0201; Case Code (Metric): 0603; Weight: 1.2E-05oz; Min Operating Temperature: -55°C; Max Operating Temperature: 85°C; Package Quantity: 1; Packaging: Cut Tape; Capacitance: 1uF; Tolerance: 20%; Voltage Rating (DC): 6.3V; Dielectric: X5R; Termination: SMD/SMT; Voltage: 6.3V; Series: GRM; Length: 0.6mm; Width: 0.3mm; Height: 0.3mm; Depth: 0.3mm; Thickness: 300um; Reach SVHC Compliant: No; Lead Free: Lead Free; RoHS Compliant: Yes; ComponentLink1URL: https://datasheet.ciiva.com/18699/grm033r60j105mea2-02-18699520.pdf?src-supplier=Digikey; ComponentLink1Description: https://datasheet.ciiva.com/18699/grm033r60j105mea2-02-18699520.pdf?src-supplier=Digikey; ComponentLink2URL: https://datasheet.ciiva.com/18699/partnumbering-e-01-18699519.pdf?src-supplier=Digikey; ComponentLink2Description: https://datasheet.ciiva.com/18699/partnumbering-e-01-18699519.pdf?src-supplier=Digikey; ComponentLink3URL: https://datasheet.ciiva.com/24218/c02e-24218376.pdf?src-supplier=Mouser; ComponentLink3Description: https://datasheet.ciiva.com/24218/c02e-24218376.pdf?src-supplier=Mouser; Supplier Part Number 1: 5050033
footprint C0201
pins: 1, 2

## CAP CER 1UF 10V X5R 0201
designator C?, comment 1uF
Multilayer Ceramic Capacitor, 1 uF, 10 V, ± 20%, X5R, 0201 [0603 Metric]; Manufacturer: Murata; Manufacturer Part Number: GRM033R61A105ME44D; Material: 4241ConductorMaterial; Dielectric: 1537DielectricType; Voltage Rating: 10V; Supplier 1: Mouser; RoHS: Yes; Category: Ceramic Capacitors; Stock 1: 348699; Pricing 1: 1=0.1, 10=0.016, 50=0.016, 100=0.01, 1000=0.007, 10000=0.006 (USD); Case/Package: 344Case; Min Operating Temperature: -55°C; Max Operating Temperature: 85°C; Capacitance: 1uF; Tolerance: 20%; Voltage Rating (DC): 10V; Length: 600um; Width: 300um; Height: 350um; Thickness: 300um; ComponentLink1URL: https://datasheet.octopart.com/GRM033R61A105ME44D-Murata-datasheet-149975212.pdf?src-supplier=Future+Electronics; ComponentLink1Description: https://datasheet.octopart.com/GRM033R61A105ME44D-Murata-datasheet-149975212.pdf?src-supplier=Future+Electronics; ComponentLink2URL: https://datasheet.octopart.com/GRM033R61A105ME44D-Murata-datasheet-165579666.pdf?src-supplier=TME; ComponentLink2Description: https://datasheet.octopart.com/GRM033R61A105ME44D-Murata-datasheet-165579666.pdf?src-supplier=TME; Supplier Part Number 1: 81-GRM033R61A105ME44
footprint C0201
pins: 1, 2

## CAP CER 1UF 16V X5R 0603
designator C?, comment 1uF
Multilayer Ceramic Capacitor, 1 uF, 16 V, ± 10%, X5R, 0603 [1608 Metric]; Manufacturer: TDK; Manufacturer Part Number: C1608X5R1C105K080AA; Material: 4241ConductorMaterial; Supplier 1: Avnet; RoHS: Yes; Category: Ceramic Capacitors; Stock 1: 144000; Pricing 1: 4000=0.01161 (USD); ComponentLink1URL: https://datasheet.ciiva.com/16449/e412-c-16449579.pdf?src-supplier=Future+Electronics; ComponentLink1Description: https://datasheet.ciiva.com/16449/e412-c-16449579.pdf?src-supplier=Future+Electronics; ComponentLink2URL: https://datasheet.ciiva.com/7975/1796654-7975069.pdf?src-supplier=Element14; ComponentLink2Description: https://datasheet.ciiva.com/7975/1796654-7975069.pdf?src-supplier=Element14; ComponentLink3URL: https://datasheet.ciiva.com/28577/1571323-28577111.pdf?src-supplier=Element14; ComponentLink3Description: https://datasheet.ciiva.com/28577/1571323-28577111.pdf?src-supplier=Element14; ComponentLink4URL: https://datasheet.ciiva.com/28577/1744655-28577126.pdf?src-supplier=Element14; ComponentLink4Description: https://datasheet.ciiva.com/28577/1744655-28577126.pdf?src-supplier=Element14; ComponentLink5URL: https://datasheet.ciiva.com/22694/1796654-22694119.pdf?src-supplier=Element14; ComponentLink5Description: https://datasheet.ciiva.com/22694/1796654-22694119.pdf?src-supplier=Element14; ComponentLink6URL: https://datasheet.ciiva.com/6250/tdkmlcccaprange-6250855.pdf?src-supplier=Digikey; ComponentLink6Description: https://datasheet.ciiva.com/6250/tdkmlcccaprange-6250855.pdf?src-supplier=Digikey; Supplier Part Number 1: C1608X5R1C105K080A
footprint C0603C/1608MM (Chip Capacitor, 2-Leads, Body 1.6x0.8mm, IPC High Density)
pins: 1, 2

## CAP CER 1UF 25V X5R 0402
designator C?, comment 1uF
Multilayer Ceramic Capacitor, 1 uF, 25 V, ± 10%, X5R, 0402 [1005 Metric]; Manufacturer: TDK; Manufacturer Part Number: C1005X5R1E105K050BC; Material: 4241ConductorMaterial; Voltage Rating: 25V; Supplier 1: Newark; RoHS: Yes; Category: Ceramic Capacitors; Stock 1: 2260000; Pricing 1: 10000=0.021, 20000=0.021 (USD); Mount: Surface Mount; Case/Package: 0402; Case Code (Metric): 1005; Case Code (Imperial): 0402; Dielectric Material: Ceramic; Min Operating Temperature: -55°C; Max Operating Temperature: 85°C; Tolerance: 10%; Packaging: Tape and Reel; Capacitance: 1uF; Package Quantity: 1; Dielectric: X5R; Series: C; Length: 1mm; Width: 0.02inch; Thickness: 0.022inch; Depth: 0.5mm; Radiation Hardening: No; Reach SVHC Compliant: No; Lead Free: Lead Free; RoHS Compliant: Yes; ComponentLink1URL: https://datasheet.ciiva.com/26936/getdatasheetpartid-756138-26936447.pdf?src-supplier=Verical; ComponentLink1Description: https://datasheet.ciiva.com/26936/getdatasheetpartid-756138-26936447.pdf?src-supplier=Verical; ComponentLink2URL: https://datasheet.ciiva.com/22719/1796654-22719532.pdf?src-supplier=Element14; ComponentLink2Description: https://datasheet.ciiva.com/22719/1796654-22719532.pdf?src-supplier=Element14; Supplier Part Number 1: 79Y4198
footprint C0402
pins: 1, 2

## CAP CER 1uF 50V X5R 0402
designator C?, comment 1uF
Multilayer Ceramic Capacitor, 1 uF, 25 V, ï¿½ 10%, X5R, 0402 [1005 Metric]; Manufacturer: Samsung; Manufacturer Part Number: CL05A105KA5NQNC; Voltage Rating: 25V; Supplier 1: Digikey; RoHS: Yes; Category: Ceramic Capacitors; Stock 1: 1895549; Pricing 1: 1=0.18, 10=0.124, 50=0.0742, 100=0.0584, 500=0.04312, 1000=0.0357, 2500=0.03323, 5000=0.0304 (USD); Mount: Surface Mount; Case/Package: 0402; Material: Ceramic; Case Code (Metric): 1005; Case Code (Imperial): 0402; Min Operating Temperature: -55°C; Max Operating Temperature: 85°C; Package Quantity: 10000; Series: CL; Capacitance: 1uF; Tolerance: 10%; Packaging: Tape and Reel; Dielectric: X5R; Construction: Flat; Length: 1mm; Width: 0.02inch; Height: 0.5mm; Thickness: 0.022inch; Depth: 0.5mm; Radiation Hardening: No; Lead Free: Lead Free; RoHS Compliant: Yes; ComponentLink1URL: https://datasheet.ciiva.com/25720/cl05a105ka5nqnc-25720771.pdf?src-supplier=Digikey; ComponentLink1Description: https://datasheet.ciiva.com/25720/cl05a105ka5nqnc-25720771.pdf?src-supplier=Digikey; ComponentLink2URL: https://datasheet.ciiva.com/3777/cl05a105ka5nqnc-3777709.pdf?src-supplier=Arrow+Electronics; ComponentLink2Description: https://datasheet.ciiva.com/3777/cl05a105ka5nqnc-3777709.pdf?src-supplier=Arrow+Electronics; ComponentLink3URL: https://datasheet.ciiva.com/29198/459147-da-01-en-vs-kondensator-0402-29198339.pdf?src-supplier=Conrad; ComponentLink3Description: https://datasheet.ciiva.com/29198/459147-da-01-en-vs-kondensator-0402-29198339.pdf?src-supplier=Conrad; Supplier Part Number 1: 1276-1445-1-ND
footprint C0402
pins: 1, 2

## CAP CER 2.2UF 6.3V X5R 0402
designator C?, comment 2.2uF
Multilayer Ceramic Capacitors MLCC - SMD/SMT 2.2uF 6.3V 0402 RoHS; Manufacturer: Murata; Manufacturer Part Number: GRM155R60J225KE01D; Supplier 1: Future Electronics; RoHS: Yes; Category: Ceramic Capacitors; Stock 1: 90000; Pricing 1: 10000=0.0071, 30000=0.0069, 100000=0.0066, 200000=0.0064, 400000=0.0061 (USD); ComponentLink1URL: https://datasheet.octopart.com/GRM155R60J225KE01D-Murata-datasheet-155239052.pdf?src-supplier=Farnell; ComponentLink1Description: https://datasheet.octopart.com/GRM155R60J225KE01D-Murata-datasheet-155239052.pdf?src-supplier=Farnell; ComponentLink2URL: https://datasheet.octopart.com/GRM155R60J225KE01D-Murata-datasheet-165579666.pdf?src-supplier=TME; ComponentLink2Description: https://datasheet.octopart.com/GRM155R60J225KE01D-Murata-datasheet-165579666.pdf?src-supplier=TME; Supplier Part Number 1: 1166000
footprint C0402
pins: 1, 2

## CAP CER 2.2UF 25V X5R 0805
designator C?, comment 2.2uF
Multilayer Ceramic Capacitor, 2.2 uF, 25 V, ± 10%, X5R, 0805 [2012 Metric]; Manufacturer: Murata; Manufacturer Part Number: GRM219R61E225KA12D; Supplier 1: Future Electronics; RoHS: Yes; Category: Ceramic Capacitors; Stock 1: 12000; Pricing 1: 4000=0.0844, 12000=0.0813, 20000=0.0799, 60000=0.077, 100000=0.0745 (USD); ComponentLink1URL: https://datasheet.ciiva.com/3779/508grm219r61e225ka1223-3779439.pdf?src-supplier=Arrow+Electronics; ComponentLink1Description: https://datasheet.ciiva.com/3779/508grm219r61e225ka1223-3779439.pdf?src-supplier=Arrow+Electronics; ComponentLink2URL: https://datasheet.ciiva.com/7719/c02e-7719066.pdf?src-supplier=Element14; ComponentLink2Description: https://datasheet.ciiva.com/7719/c02e-7719066.pdf?src-supplier=Element14; ComponentLink3URL: https://datasheet.ciiva.com/2989/product-2989667.pdf?src-supplier=Avnet; ComponentLink3Description: https://datasheet.ciiva.com/2989/product-2989667.pdf?src-supplier=Avnet; ComponentLink4URL: https://datasheet.ciiva.com/2989/product-2989666.pdf?src-supplier=Avnet; ComponentLink4Description: https://datasheet.ciiva.com/2989/product-2989666.pdf?src-supplier=Avnet; ComponentLink5URL: https://datasheet.ciiva.com/138/partnumbering-e-01-138394.pdf?src-supplier=Digikey; ComponentLink5Description: https://datasheet.ciiva.com/138/partnumbering-e-01-138394.pdf?src-supplier=Digikey; ComponentLink6URL: https://datasheet.ciiva.com/138/partnumbering-e-01-138395.pdf?src-supplier=Digikey; ComponentLink6Description: https://datasheet.ciiva.com/138/partnumbering-e-01-138395.pdf?src-supplier=Digikey; ComponentLink7URL: https://datasheet.ciiva.com/138/partnumbering-e-01-138396.pdf?src-supplier=Digikey; ComponentLink7Description: https://datasheet.ciiva.com/138/partnumbering-e-01-138396.pdf?src-supplier=Digikey; Supplier Part Number 1: 2034707
footprint C0805B/2012MM (Chip Capacitor, 2-Leads, Body 2.0x1.3mm, IPC Medium Density)
pins: 1, 2

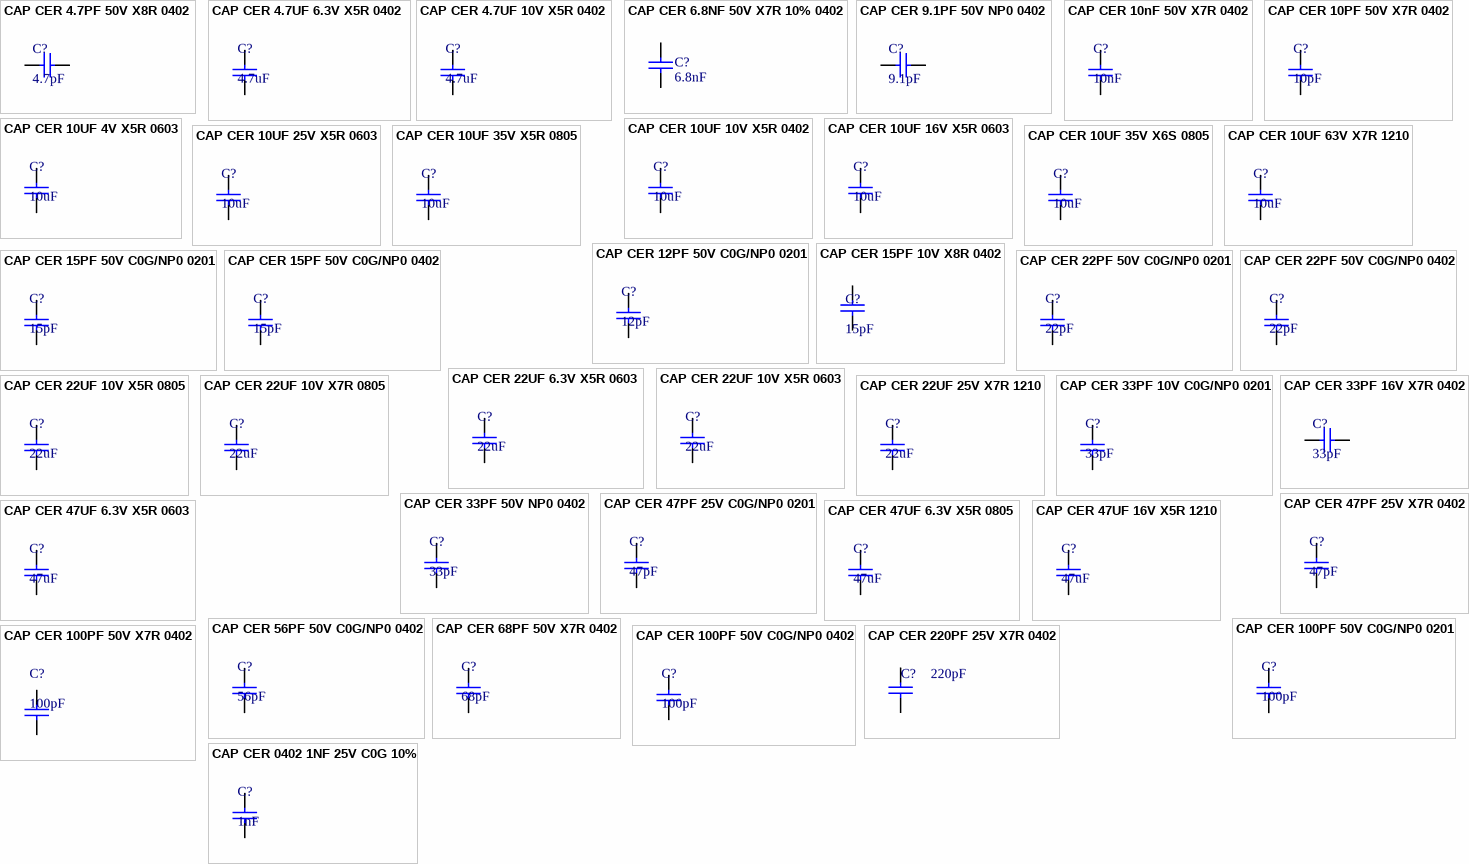
[diagram p1: symbols CAP CER 4.7PF 50V X8R 0402 to CAP CER 0402 1NF 25V C0G 10%]

## CAP CER 4.7PF 50V X8R 0402
designator C?, comment 4.7pF
Cap Cer 0402 4.7PF 50V Ultra Sta; Manufacturer: KEMET; Manufacturer Part Number: C0402C479C5HAC7867; Material: 4241ConductorMaterial; Dielectric: 1540DielectricType; Supplier 1: Digikey; RoHS: Yes; Category: Ceramic Capacitors; Stock 1: 78513; Pricing 1: 1=0.1, 10=0.036, 50=0.0206, 100=0.016, 500=0.01202, 1000=0.00944, 2500=0.00858, 5000=0.0079 (USD); Case/Package: 343Case; Number of Pins: 2NUMBER; Dielectric Material: 4241ConductorMaterial; Min Operating Temperature: -55°C; Max Operating Temperature: 125°C; Capacitance: 4.7pF; Voltage Rating: 50V; Voltage Rating (DC): 50V; Height: 550um; Lead Free: 5697LeadFree; Supplier Part Number 1: 399-C0402C479C5HAC7867CT-ND
footprint C0402
pins: 1, 2